# EAGLE library part MCP2515 (library graftel-internal-ic)
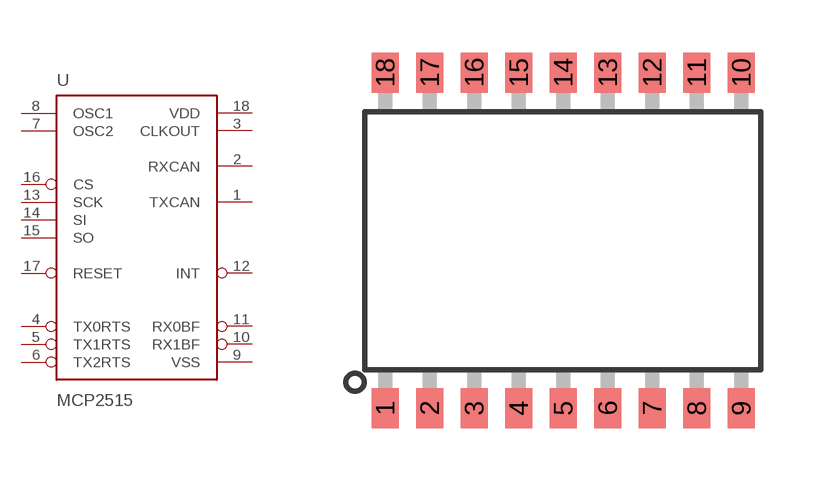
[diagram p14: symbol with the pads of SO-18W; footprint SO-18W]

Designator prefix U

## MCP2515  [SO-18W]
1  TXCAN  out
2  RXCAN  in
3  CLKOUT  out
4  TX0RTS  in
5  TX1RTS  in
6  TX2RTS  in
7  OSC2  out
8  OSC1  in
9  VSS
10  RX1BF  out
11  RX0BF  out
12  INT  out
13  SCK  in
14  SI  in
15  SO  out
16  CS  in
17  RESET  in
18  VDD

## Footprint SO-18W (pad centres in mm)
Small Outline Wide Plastic Gull Wing 300-mil body, package type SO
smd 0.762 x 1.143: 1 -5.08,-4.788; 2 -3.81,-4.788; 3 -2.54,-4.788; 4 -1.27,-4.788; 5 0,-4.788; 6 1.27,-4.788; 7 2.54,-4.788; 8 3.81,-4.788; 9 5.08,-4.788; 10 5.08,4.788; 11 3.81,4.788; 12 2.54,4.788; 13 1.27,4.788; 14 0,4.788; 15 -1.27,4.788; 16 -2.54,4.788; 17 -3.81,4.788; 18 -5.08,4.788